# Altium footprint library diploma.PcbLib: 21 footprints (part 2 of 2)
Each footprint in its own frame and in the unit in brackets; x right, y up, seen from the top. Pads: shape width x height; smd on the part's side, far side on the other; paste and mask are expansions set on the pad; w line width, h text height; cw(c..) or ccw(c..) is an arc to the next point about the centre after c.
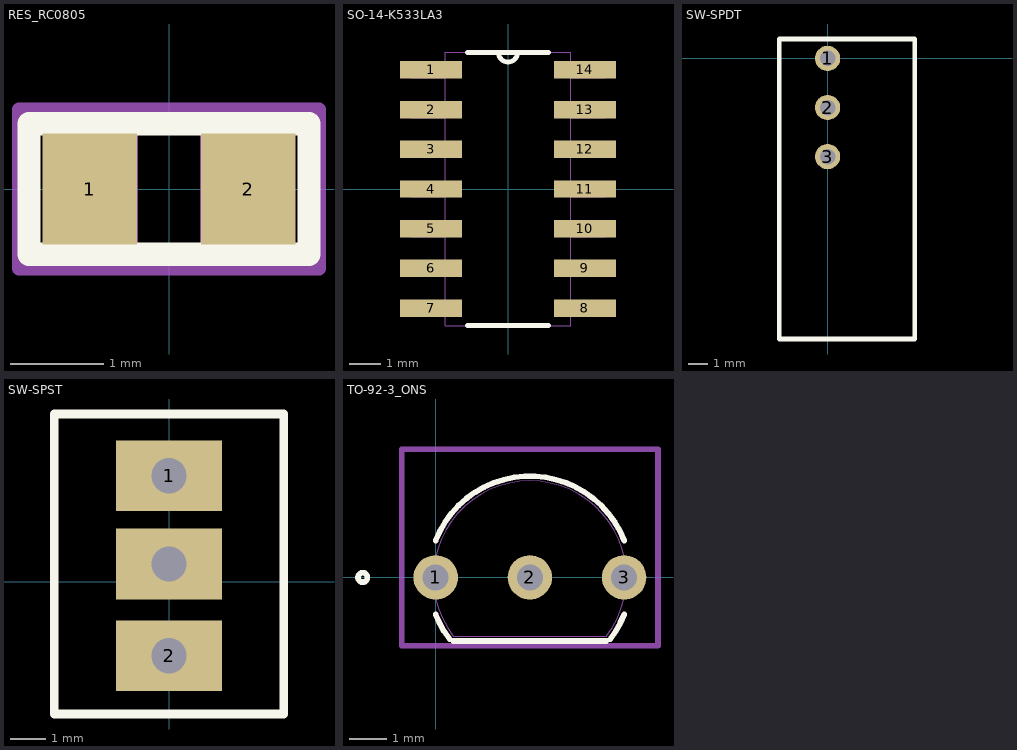
[diagram p1: the footprints below, top view; thin cyan lines are the x and y axes]

## RES_RC0805 [mil]
pads (2):
  rect 39.78x47 smd paste+0 mask+0: 1(-33.39,0) 2(33.39,0)
Top Overlay:
  lines w9.84: -59.06,-27.56 -59.06,27.56 59.06,27.56 59.06,-27.56 -59.06,-27.56
Mechanical 13:
  lines w1: -39.5,-23.5 -39.5,23.5 ; -39.5,-23.5 39.5,-23.5 ; -39.5,-23.5 -13.5,-23.5 -13.5,23.5 -39.5,23.5 ; -39.5,-23.5 -39.5,23.5 ; -39.5,23.5 39.5,23.5 ; 39.5,-23.5 39.5,23.5 ; 39.5,-23.5 39.5,23.5 ; 39.5,-23.5 13.5,-23.5 13.5,23.5 39.5,23.5
Mechanical 15:
  lines w6: -63.28,-33.5 63.28,-33.5 63.28,33.5 -63.28,33.5 -63.28,-33.5
3D body: height 10, standoff 0, extent 0,0 10,10
3D body "RC0805N_YAG.step": height 27.99, standoff 0, extent -39.48,-23.5 39.5,23.51

## SO-14-K533LA3 [mil]
pads (14):
  rect 78x22 smd: 1(-97,150) 2(-97,100) 3(-97,50) 4(-97,0) 5(-97,-50) 6(-97,-100) 7(-97,-150) 8(97,-150) 9(97,-100) 10(97,-50) 11(97,0) 12(97,50) 13(97,100) 14(97,150)
Top Overlay:
  lines w6: -51,-172 51,-172 ; -51,172 -12,172 ; 51,172 12,172 ; -12,172 ccw(c0,172) 12,172 ; -12,172 12,172
Mechanical 13:
  lines w0: -12,172 ccw(c0,172) 12,172 ; -12,172 12,172 ; -12,172 -79,172 -79,-172 79,-172 79,172 12,172 ; -122,-160 -122,-140 -79,-140 -79,-160 -122,-160 ; -122,-110 -122,-90 -79,-90 -79,-110 -122,-110 ; -122,-60 -122,-40 -79,-40 -79,-60 -122,-60 ; -122,-10 -122,10 -79,10 -79,-10 -122,-10 ; -122,40 -122,60 -79,60 -79,40 -122,40 ; -122,90 -122,110 -79,110 -79,90 -122,90 ; -122,140 -122,160 -79,160 -79,140 -122,140 ; 79,-160 79,-140 122,-140 122,-160 79,-160 ; 79,-110 79,-90 122,-90 122,-110 79,-110 ; 79,-60 79,-40 122,-40 122,-60 79,-60 ; 79,-10 79,10 122,10 122,-10 79,-10 ; 79,40 79,60 122,60 122,40 79,40 ; 79,90 79,110 122,110 122,90 79,90 ; 79,140 79,160 122,160 122,140 79,140
3D body "SO-14.STEP": height 68.9, standoff 0, extent -118.01,-170.18 118.02,170.18

## SW-SPDT [mm]
pads (3):
  round 1.3 hole 0.8: 1(0,0) 2(0,-2.54) 3(0,-5.08)
Top Overlay:
  lines w0.25: -2.5,-14.5 4.5,-14.5 4.5,1 -2.5,1 -2.5,-14.5
3D body "SW-SPDT_a-12hv.stp": height 10.2, standoff -4.1, extent -2.021,-25.223 3.821,0.3

## SW-SPST [mm]
pads (3):
  rect 3x2 hole 1 square: 1(0,3) 2(0,-2.1) ""(0,0.5)
Top Overlay:
  lines w0.25: -3.25,-3.75 -3.25,4.75 3.25,4.75 3.25,-3.75 -3.25,-3.75
3D body "SW-SPST.stp": height 18.15, standoff -4, extent -3,-3.6 3,4.5

## TO-92-3_ONS [mm]
pads (3):
  round 1.2 hole 0.7 mask+0: 1(0,0) 2(2.54,0) 3(5.08,0)
Top Overlay:
  circle w0.152: c-1.968,0 r0.127
  lines w0.152: -0.003,-0.993 ccw(c2.54,0) 0.376,-1.665 ; -0.003,0.993 cw(c2.54,0) 5.083,0.993 ; 0.476,-1.714 4.604,-1.714 ; 4.704,-1.665 ccw(c2.54,0) 5.083,-0.993
Mechanical 13:
  circle w0: c0.191,0 r0.127
  lines w0: 0.476,-1.587 cw(c2.54,0) 4.604,-1.587
  lines w0.025: 0.476,-1.587 4.604,-1.587
  lines w0.152: -0.254,0 0.254,0 ; 0,-0.254 0,0.254
Mechanical 15:
  lines w0.152: -0.914,-1.841 5.994,-1.841 5.994,3.454 -0.914,3.454 -0.914,-1.841
3D body: height 0.25, standoff 0, extent 0,0 0.254,0.254
3D body "TO-92-3_ONS.step": height 5.8, standoff -2.27, extent -0.319,-1.075 5.319,2.609